# EAGLE library part AS5145 (library SKAARHOJ)
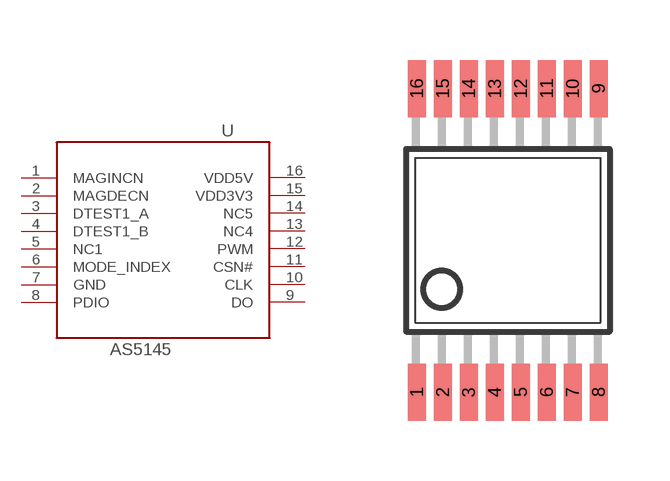
[diagram p58: symbol with the pads of SSOP16; footprint SSOP16]

Designator prefix -

## AS5145  [SSOP16]
1  MAGINCN  out
2  MAGDECN  out
3  DTEST1_A  out
4  DTEST1_B  out
5  NC1  nc
6  MODE_INDEX
7  GND  pwr
8  PDIO  in
9  DO  out
10  CLK  in
11  CSN#  in
12  PWM  out
13  NC4  nc
14  NC5  nc
15  VDD3V3  pwr
16  VDD5V  pwr

## Footprint SSOP16 (pad centres in mm)
smd 0.46 x 1.43: 1 -2.275,-3.795; 2 -1.625,-3.795; 3 -0.975,-3.795; 4 -0.325,-3.795; 5 0.325,-3.795; 6 0.975,-3.795; 7 1.625,-3.795; 8 2.275,-3.795; 9 2.275,3.795; 10 1.625,3.795; 11 0.975,3.795; 12 0.325,3.795; 13 -0.325,3.795; 14 -0.975,3.795; 15 -1.625,3.795; 16 -2.275,3.795